# Altium footprint library Conn_Headers.PcbLib: 1 footprints
Each footprint in its own frame and in the unit in brackets; x right, y up, seen from the top. Pads: shape width x height; smd on the part's side, far side on the other; paste and mask are expansions set on the pad; w line width, h text height; cw(c..) or ccw(c..) is an arc to the next point about the centre after c.
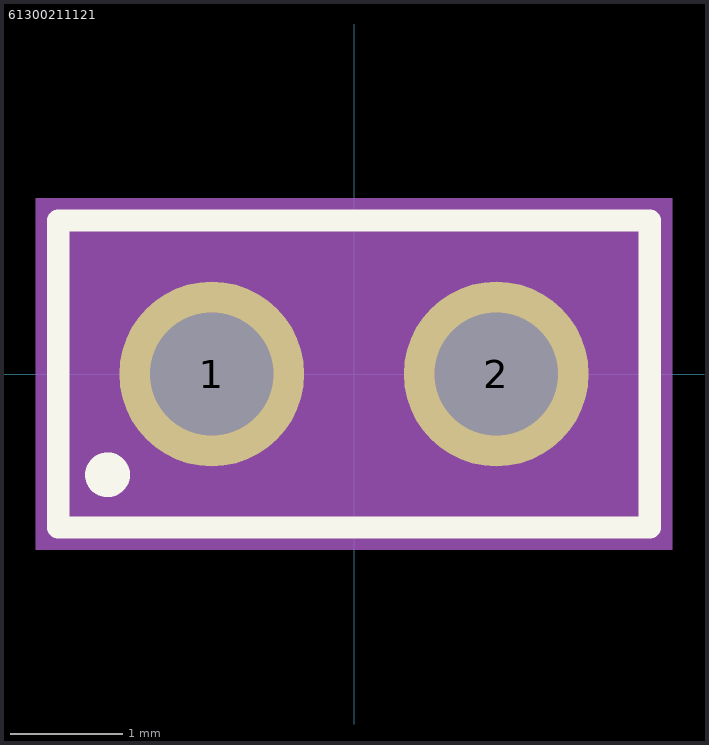
[diagram p0: the footprint, top view; thin cyan lines are the x and y axes]

## 61300211121 [mm]
pads (2):
  round 1.65 hole 1.1: 1(-1.27,0) 2(1.27,0)
Top Overlay:
  circle w0.2: c-2.2,-0.9 r0.1
  lines w0.2: -2.64,-1.37 2.64,-1.37 2.64,1.37 -2.64,1.37 -2.64,-1.37
Mechanical 13:
  lines w0.1: -2.54,-1.27 -2.54,1.27 2.54,1.27 2.54,-1.27 -2.54,-1.27
Mechanical 15:
  region: 2.84,-1.57 -2.84,-1.57 -2.84,1.57 2.84,1.57